# Altium schematic symbol library ILDA UNO Shield.SchLib: 25 symbols
Pins are listed as number, name and electrical type; pins without a type are passive.

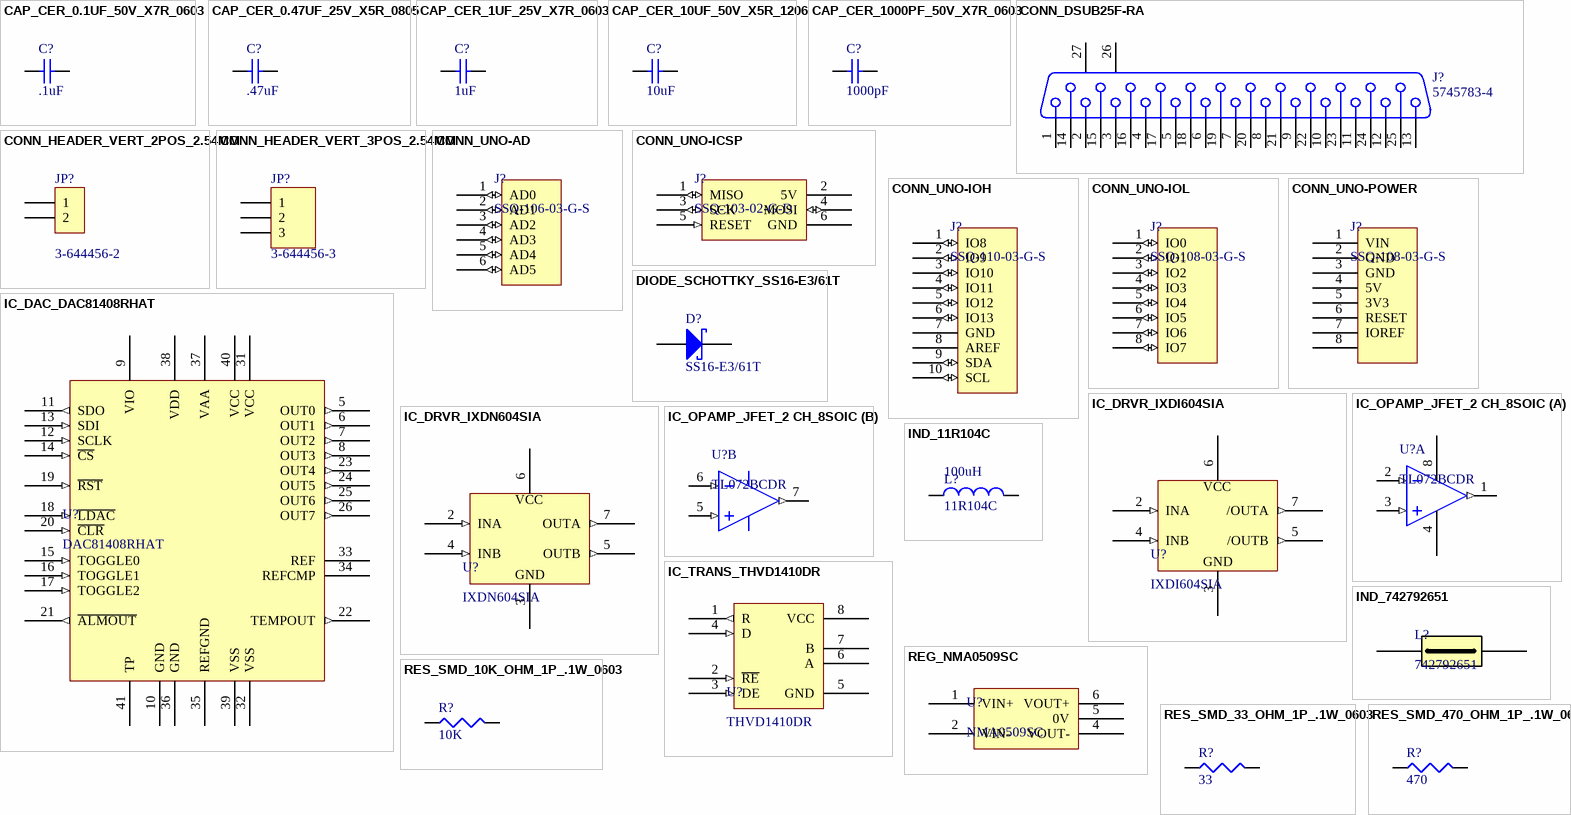
[diagram p0: symbols CAP_CER_0.1UF_50V_X7R_0603 to RES_SMD_470_OHM_1P_.1W_0603]

## CAP_CER_0.1UF_50V_X7R_0603
designator C?, comment .1uF
0.1µF ±10% 50V Ceramic Capacitor X7R 0603 (1608 Metric); Value: .1uF; Supplier 1: Digi-Key; Supplier Part Number 1: 399-5089-1-ND; ComponentLink1Description: Datasheet; ComponentLink1URL: https://content.kemet.com/datasheets/KEM_C1002_X7R_SMD.pdf
simulation model CAP (Semiconductor Capacitor)
signal-integrity model Cap Semi
footprint C0603 (Chip Capacitor, Body 1.6x0.8mm, IPC High Density)
pins: 1, 2

## CAP_CER_0.47UF_25V_X5R_0805
designator C?, comment .47uF
0.47µF ±10% 25V Ceramic Capacitor X5R 0805 (2012 Metric); Value: .47uF; ComponentLink1Description: Datasheet; ComponentLink1URL: https://ds.yuden.co.jp/TYCOMPAS/ut/detail?pn=TMK212BJ474KD-T%20%20&u=M; Supplier 1: Digi-Key; Supplier Part Number 1: 587-1290-1-ND
simulation model CAP (Semiconductor Capacitor)
signal-integrity model Cap Semi
footprint C0603 (Chip Capacitor, Body 1.6x0.8mm, IPC High Density)
pins: 1, 2

## CAP_CER_1UF_25V_X7R_0603
designator C?, comment 1uF
1µF ±10% 25V Ceramic Capacitor X7R 0603 (1608 Metric); Value: 1uF; ComponentLink1Description: Datasheet; ComponentLink1URL: https://api.kemet.com/component-edge/download/datasheet/C0603C105K3RACTU.pdf; Supplier 1: Digi-Key; Supplier Part Number 1: 399-7376-1-ND
simulation model CAP (Semiconductor Capacitor)
signal-integrity model Cap Semi
footprint C0603 (Chip Capacitor, Body 1.6x0.8mm, IPC High Density)
pins: 1, 2

## CAP_CER_10UF_50V_X5R_1206
designator C?, comment 10uF
10µF ±10% 50V Ceramic Capacitor X5R 1206 (3216 Metric); Value: 10uF; ComponentLink1URL: http://weblib.samsungsem.com/mlcc/mlcc-ec-data-sheet.do?partNumber=CL31A106KBHNNN; ComponentLink1Description: http://www.samsungsem.com/kr/front/downloadcms.do?path=/kr/support/product-search/mlcc/__icsFiles/afieldfile/2015/04/16&fileName=CL31A106KBHNNNE.pdf; Supplier 1: Digi-Key; Supplier Part Number 1: 1276-2876-1-ND
simulation model CAP (Semiconductor Capacitor)
signal-integrity model Cap Semi
footprint C1206 (Chip Capacitor, Body 3.2x1.6mm, IPC High Density)
pins: 1, 2

## CAP_CER_1000PF_50V_X7R_0603
designator C?, comment 1000pF
1000pF ±10% 50V Ceramic Capacitor X7R 0603 (1608 Metric); Value: 1000pF; Supplier 1: Digi-Key; Supplier Part Number 1: 399-1082-1-ND; ComponentLink1Description: Datasheet; ComponentLink1URL: https://api.kemet.com/component-edge/download/datasheet/C0603C105K3RACTU.pdf
simulation model CAP (Semiconductor Capacitor)
signal-integrity model Cap Semi
footprint C0603 (Chip Capacitor, Body 1.6x0.8mm, IPC High Density)
pins: 1, 2

## CONN_DSUB25F-RA
designator J?, comment 5745783-4
25 Position D-Sub Receptacle, Female Sockets Connector; Supplier 1: Digi-Key; Supplier Part Number 1: A32077-ND; ComponentLink1Description: Drawing; ComponentLink1URL: https://www.te.com/commerce/DocumentDelivery/DDEController?Action=srchrtrv&DocNm=5745783&DocType=Customer+Drawing&DocLang=English
signal-integrity model Connector
footprint DSUB25F-RA (Connector; D Subminiature; 25 Position; Right Angle; Pitch 1.385 mm)
pins: 1, 2, 3, 4, 5, 6, 7, 8, 9, 10, 11, 12, 13, 14, 15, 16, 17, 18, 19, 20, 21, 22, 23, 24, 25, 26 MH1, 27 MH2

## CONN_HEADER_VERT_2POS_2.54MM
designator JP?, comment 3-644456-2
Connector Header Through Hole 2 position 0.100" (2.54mm); ComponentLink1URL: http://documents.tycoelectronics.com/commerce/DocumentDelivery/DDEController?Action=srchrtrv&DocNm=644456&DocType=CD&DocLang=EN; ComponentLink1Description: Datasheet; ComponentLink2URL: http://www.te.com/catalog/products/en?q=3-644456-2; ComponentLink3URL: http://www.te.com; ComponentLink2Description: Product Page; ComponentLink3Description: TE Connectivity Home; Supplier 1: Digi-Key; Supplier Part Number 1: A31112-ND
signal-integrity model Connector
footprint HEADER 1x2 100MIL (Connector; Header; 2 Position)
pins: 1, 2

## CONN_HEADER_VERT_3POS_2.54MM
designator JP?, comment 3-644456-3
Connector Header Through Hole 3 position 0.100" (2.54mm); ComponentLink1URL: http://documents.tycoelectronics.com/commerce/DocumentDelivery/DDEController?Action=srchrtrv&DocNm=644456&DocType=CD&DocLang=EN; ComponentLink1Description: Datasheet; ComponentLink2URL: http://www.te.com/catalog/products/en?q=3-644456-3; ComponentLink3URL: http://www.te.com; ComponentLink2Description: Product Page; ComponentLink3Description: TE Connectivity Home; Supplier 1: Digi-Key; Supplier Part Number 1: A31113-ND
signal-integrity model Connector
footprint HEADER 1x3 100mil (Connector; Header; 3 Position)
pins: 1, 2, 3

## CONN_UNO-AD
designator J?, comment SSQ-106-03-G-S
6 Position Receptacle Connector, .1", Gold, Through Hole; Supplier 1: Digi-Key; Supplier Part Number 1: SAM1198-06-ND; ComponentLink1Description: Datasheet; ComponentLink1URL: http://suddendocs.samtec.com/catalog_english/ssq_th.pdf
footprint Header 6x1 8.5mm (Stackable 6 pin header)
pins: 1 AD0 (io), 2 AD1 (io), 3 AD2 (io), 4 AD3 (io), 5 AD4 (io), 6 AD5 (io)

## CONN_UNO-ICSP
designator J?, comment SSQ-103-02-G-D
6 Position (2x3) Receptacle Connector, .1", Gold, Through Hole; Supplier 1: Digi-Key; Supplier Part Number 1: SAM1185-03-ND
footprint ICSP
pins: 1 MISO (io), 2 5V (power), 3 SCK (io), 4 MOSI (io), 5 RESET (in), 6 GND (power)

## CONN_UNO-IOH
designator J?, comment SSQ-110-03-G-S
10 Position Receptacle Connector, .1", Gold, Through Hole; Supplier 1: Digi-Key; Supplier Part Number 1: SAM1198-10-ND; ComponentLink1Description: Datasheet; ComponentLink1URL: http://suddendocs.samtec.com/catalog_english/ssq_th.pdf
footprint Header 10x1 8.5mm (Stackable 10 pin header)
pins: 1 IO8 (io), 2 IO9 (io), 3 IO10 (io), 4 IO11 (io), 5 IO12 (io), 6 IO13 (io), 7 GND (power), 8 AREF, 9 SDA (io), 10 SCL (io)

## CONN_UNO-IOL
designator J?, comment SSQ-108-03-G-S
8 Position Receptacle Connector , .1", Gold, Through Hole; Supplier 1: Digi-Key; Supplier Part Number 1: SAM1198-08-ND; ComponentLink1Description: Datasheet; ComponentLink1URL: http://suddendocs.samtec.com/catalog_english/ssq_th.pdf
footprint Header 8x1 8.5mm (Stackable 8 pin header)
pins: 1 IO0 (io), 2 IO1 (io), 3 IO2 (io), 4 IO3 (io), 5 IO4 (io), 6 IO5 (io), 7 IO6 (io), 8 IO7 (io)

## CONN_UNO-POWER
designator J?, comment SSQ-108-03-G-S
8 Position Receptacle Connector , .1", Gold, Through Hole; Supplier 1: Digi-Key; Supplier Part Number 1: SAM1198-08-ND; ComponentLink1Description: Datasheet; ComponentLink1URL: http://suddendocs.samtec.com/catalog_english/ssq_th.pdf
footprint Header 8x1 8.5mm (Stackable 8 pin header)
pins: 1 VIN (power), 2 GND (power), 3 GND (power), 4 5V (power), 5 3V3 (power), 6 RESET, 7 IOREF (power), 8

## DIODE_SCHOTTKY_SS16-E3/61T
designator D?, comment SS16-E3/61T
Diode Schottky 60V 1A Surface Mount DO-214AC (SMA); ComponentLink1Description: Datasheet; ComponentLink1URL: https://www.vishay.com/docs/88746/ss12.pdf; Supplier 1: Digi-Key; Supplier Part Number 1: SS16-E3/61TGICT-ND
footprint SMA (DO-214-AC/SMA; 2 C-Bend Leads; Body 5 x 2.7 mm, inc. leads (LxW))
pins: 1 K, 2 A

## IC_DAC_DAC81408RHAT
designator U?, comment DAC81408RHAT
16 Bit Digital to Analog Converter 8 channel 40-VQFN (6x6); Supplier 1: Digi-Key; Supplier Part Number 1: 296-53466-1-ND; ComponentLink1Description: Datasheet; ComponentLink1URL: https://www.ti.com/lit/ds/symlink/dac81408.pdf?ts=1592954158216&ref_url=https%253A%252F%252Fwww.ti.com%252Fproduct%252FDAC81408
footprint RHA0040H_V (QFN, 40-Leads, Body 6x6mm, Pitch 0.5mm, Thermal Pad 4.15 x 4.15mm, TI Recommended)
pins: 5 OUT0 (out), 6 OUT1 (out), 7 OUT2 (out), 8 OUT3 (out), 9 VIO (power), 10 GND (power), 11 SDO (out), 12 SCLK (in), 13 SDI (in), 14 ~{CS} (in), 15 TOGGLE0 (in), 16 TOGGLE1 (in), 17 TOGGLE2 (in), 18 ~{LDAC} (in), 19 ~{RST} (in), 20 ~{CLR} (in), 21 ~{ALMOUT} (out), 22 TEMPOUT (out), 23 OUT4 (out), 24 OUT5 (out), 25 OUT6 (out), 26 OUT7 (out), 31 VCC (power), 32 VSS (power), 33 REF, 34 REFCMP, 35 REFGND (power), 36 GND (power), 37 VAA (power), 38 VDD (power), 39 VSS (power), 40 VCC (power), 41 TP (power)

## IC_DRVR_IXDI604SIA
designator U?, comment IXDI604SIA
Low-Side Gate Driver IC Inverting 8-SOIC; ComponentLink1Description: Datasheet; ComponentLink1URL: http://www.ixysic.com/home/pdfs.nsf/www/IXD_604.pdf/$file/IXD_604.pdf; Supplier 1: Digi-Key; Supplier Part Number 1: CLA339-ND
footprint SOIC8
pins: 2 INA (in), 3 GND (power), 4 INB (in), 5 /OUTB (out), 6 VCC (power), 7 /OUTA (out)

## IC_DRVR_IXDN604SIA
designator U?, comment IXDN604SIA
Low-Side Gate Driver IC Non-Inverting 8-SOIC; ComponentLink1Description: Datasheet; ComponentLink1URL: http://www.ixysic.com/home/pdfs.nsf/www/IXD_604.pdf/$file/IXD_604.pdf; Supplier 1: Digi-Key; Supplier Part Number 1: 212-IXDN604SIACT-ND
footprint SOIC8
pins: 2 INA (in), 3 GND (power), 4 INB (in), 5 OUTB (out), 6 VCC (power), 7 OUTA (out)

## IC_OPAMP_JFET_2 CH_8SOIC
designator U?, comment TL072BCDR
J-FET Amplifier 2 Circuit  8-SOIC; ComponentLink1URL: http://www.ti.com/; ComponentLink3Description: Package Specification; ComponentLink2Description: Datasheet; ComponentLink3URL: http://www.ti.com/litv/pdf/msoi002j; ComponentLink1Description: Manufacturer URL; ComponentLink2URL: http://www.ti.com/lit/ds/symlink/tl072b.pdf; Supplier 1: Digi-Key; Supplier Part Number 1: 296-14996-1-ND
footprint SOIC8
part A pins: 1 OUT1 (out), 2 IN1- (in), 3 IN1+ (in), 4 VCC- (power), 8 VCC+ (power)
part B pins: 5 IN2+ (in), 6 IN2- (in), 7 OUT2 (out)

## IC_TRANS_THVD1410DR
designator U?, comment THVD1410DR
Transceiver 1ch Half RS485 8-SOIC; Supplier 1: Digi-Key; Supplier Part Number 1: 296-THVD1410DRCT-ND; ComponentLink1Description: Datasheet; ComponentLink1URL: https://www.ti.com/lit/ds/symlink/thvd1410.pdf?HQS=TI-null-null-digikeymode-df-pf-null-wwe&ts=1593548093817
footprint SOIC8
pins: 1 R (out), 2 ~{RE} (in), 3 DE (in), 4 D (in), 5 GND (power), 6 A, 7 B, 8 VCC (power)

## IND_11R104C
designator L?, comment 11R104C  value 100uH
100µH Unshielded Wirewound Inductor 350mA 1.1Ohm Max Radial, Vertical Cylinder; ComponentLink1Description: Datasheet; ComponentLink1URL: https://www.murata-ps.com/pub/data/magnetics/kmp_1100r.pdf; Supplier 1: Digi-Key; Supplier Part Number 1: 811-2030-ND
simulation model INDUCTOR (Inductor)
signal-integrity model Inductor
footprint 1100R (Murata 1100R Series Radial Lead Inductor)
pins: 1, 2

## IND_742792651
designator L?, comment 742792651
600 Ohms @ 100MHz 1 Signal Line Ferrite Bead 0603 (1608 Metric) 1A 200mOhm; ComponentLink1Description: Datasheet; ComponentLink1URL: https://katalog.we-online.de/pbs/datasheet/742792651.pdf; Supplier 1: Digi-Key; Supplier Part Number 1: 732-1593-1-ND
footprint R0603 (Chip Resistor, Body 1.6x0.8mm, IPC High Density)
pins: 1, 2

## REG_NMA0509SC
designator U?, comment NMA0509SC
Isolated Module DC DC Converter 2 Output 9V -9V   55mA, 55mA 4.5V - 5.5V Input; ComponentLink1Description: Datasheet; ComponentLink1URL: https://www.murata.com/products/productdata/8807031013406/kdc-nma.pdf?1583754812000; Supplier 1: Digi-Key; Supplier Part Number 1: 811-1449-5-ND
footprint NMA-SIP (Murata NMA Series DC-DC Converter)
pins: 1 VIN+ (power), 2 VIN- (power), 4 VOUT- (power), 5 0V (power), 6 VOUT+ (power)

## RES_SMD_10K_OHM_1P_.1W_0603
designator R?, comment 10K
10 kOhms ±1% 0.1W, 1/10W Chip Resistor 0603 (1608 Metric) Automotive AEC-Q200 Thick Film; Value: 10K; Supplier 1: Digi-Key; ComponentLink1Description: Datasheet; ComponentLink1URL: https://industrial.panasonic.com/cdbs/www-data/pdf/RDA0000/AOA0000C304.pdf; Supplier Part Number 1: P10.0KHCT-ND
simulation model RESISTOR (Resistor)
signal-integrity model Res
footprint R0603 (Chip Resistor, Body 1.6x0.8mm, IPC High Density)
pins: 1, 2

## RES_SMD_33_OHM_1P_.1W_0603
designator R?, comment 33
33 Ohms ±1% 0.1W, 1/10W Chip Resistor 0603 (1608 Metric) Automotive AEC-Q200 Thick Film; Value: 33; ComponentLink1Description: Datasheet; ComponentLink1URL: http://www.vishay.com/docs/20035/dcrcwe3.pdf; Supplier 1: Digi-Key; Supplier Part Number 1: 541-CRCW060333R0FKEBCT-ND
simulation model RESISTOR (Resistor)
signal-integrity model Res
footprint R0603 (Chip Resistor, Body 1.6x0.8mm, IPC High Density)
pins: 1, 2

## RES_SMD_470_OHM_1P_.1W_0603
designator R?, comment 470
470 Ohms ±1% 0.1W, 1/10W Chip Resistor 0603 (1608 Metric) Automotive AEC-Q200 Thick Film; Value: 470; ComponentLink1Description: Datasheet; ComponentLink1URL: https://industrial.panasonic.com/cdbs/www-data/pdf/RDA0000/AOA0000C304.pdf; Supplier 1: Digi-Key; Supplier Part Number 1: P470HCT-ND
simulation model RESISTOR (Resistor)
signal-integrity model Res
footprint R0603 (Chip Resistor, Body 1.6x0.8mm, IPC High Density)
pins: 1, 2